# EAGLE library part M74HC238 (library SparkFun-DigitalIC)
M74HC238 - CMOS 3 TO 8 LINE DECODER
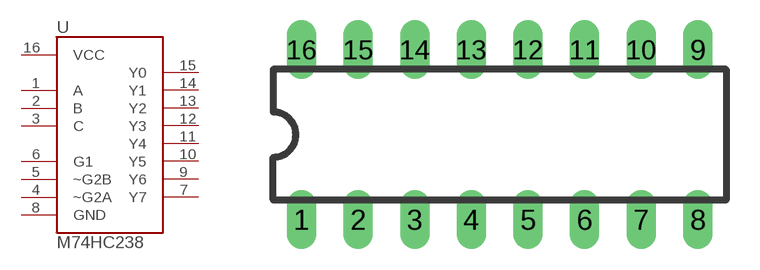
[diagram p33: symbol with the pads of DIL16; footprint DIL16]

Designator prefix -

## M74HC238  [DIL16]
1  A
2  B
3  C
4  ~G2A
5  ~G2B
6  G1
7  Y7
8  GND
9  Y6
10  Y5
11  Y4
12  Y3
13  Y2
14  Y1
15  Y0
16  VCC

## Footprint DIL16 (pad centres in mm)
Dual In Line Package
drill 0.813 long: 1 -8.89,-3.81; 2 -6.35,-3.81; 3 -3.81,-3.81; 4 -1.27,-3.81; 5 1.27,-3.81; 6 3.81,-3.81; 7 6.35,-3.81; 8 8.89,-3.81; 9 8.89,3.81; 10 6.35,3.81; 11 3.81,3.81; 12 1.27,3.81; 13 -1.27,3.81; 14 -3.81,3.81; 15 -6.35,3.81; 16 -8.89,3.81